# EAGLE library part LM394 (library syc_2020)
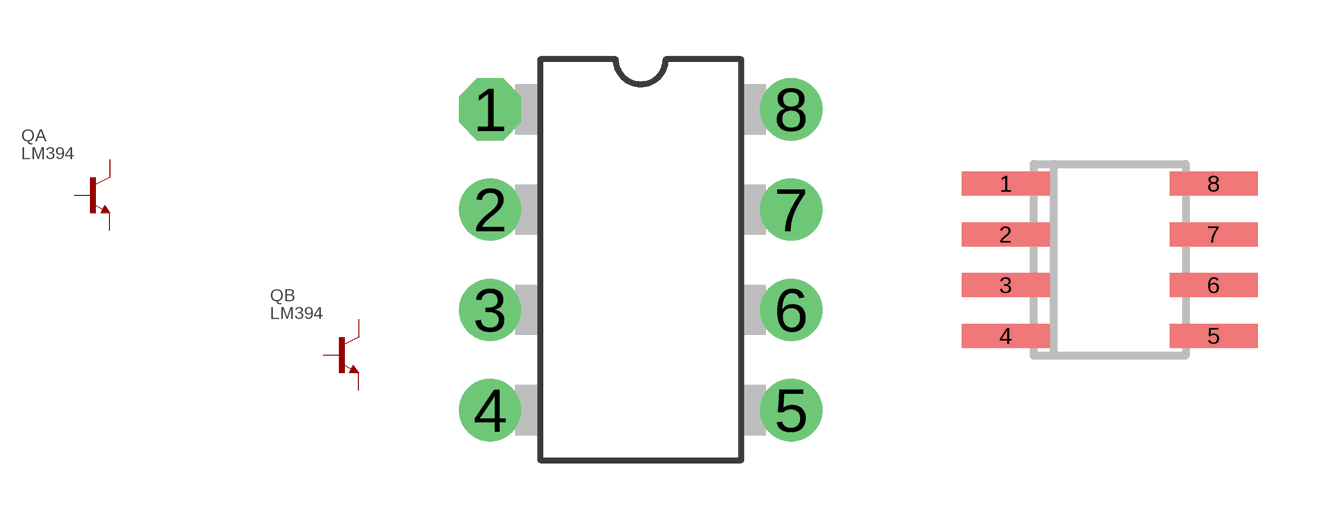
[diagram p0: symbol with the pads of DIP_08_03; footprints DIP_08_03, SOIC_08]

Designator prefix Q; gates A=NPN B=NPN

## LM394  [DIP_08_03]
1  A:C  pas
2  A:B  pas
3  A:E  pas
6  B:E  pas
7  B:B  pas
8  B:C  pas

## LM394S  [SOIC_08]
Pads as for DIP_08_03

## Footprint DIP_08_03 (pad centres in mm)
drill 0.7 pad 1.575 octagon: 1 -3.81,3.81
drill 0.7 pad 1.575 round: 2 -3.81,1.27; 3 -3.81,-1.27; 4 -3.81,-3.81; 5 3.81,-3.81; 6 3.81,-1.27; 7 3.81,1.27; 8 3.81,3.81

## Footprint SOIC_08 (pad centres in mm)
smd 2.2 x 0.6: 1 -2.6,1.905; 2 -2.6,0.635; 3 -2.6,-0.635; 4 -2.6,-1.905; 5 2.6,-1.905; 6 2.6,-0.635; 7 2.6,0.635; 8 2.6,1.905